# EAGLE library part 2X6 (library weidmüller)
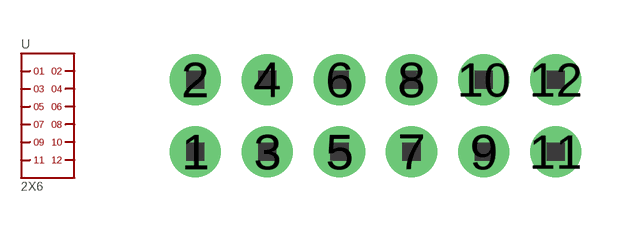
[diagram p6: symbol with the pads of 2X6; footprint 2X6]

Designator prefix -

## 2X6  [2X6]
1  1
2  2
3  3
4  4
5  5
6  6
7  7
8  8
9  9
10  10
11  11
12  12

## Footprint 2X6 (pad centres in mm)
drill 0.8 pad 1.422: 1 -5,-1; 2 -5,1; 3 -3,-1; 4 -3,1; 5 -1,-1; 6 -1,1; 7 1,-1; 8 1,1; 9 3,-1; 10 3,1; 11 5,-1; 12 5,1